# Altium schematic symbol library Components - 04.08.24 - 00.02.SchLib: 1 symbol
Pins are listed as number, name and electrical type; pins without a type are passive.

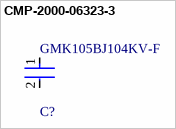
[diagram p0: symbol CMP-2000-06323-3]

## CMP-2000-06323-3
designator C?, comment GMK105BJ104KV-F
None; Voltage: 35V; Tolerance: 10%; Dielectric: X5R; Capacitance: 100nF; Voltage Rating: 35V; Halogen Free: Halogen Free; Mount: Surface Mount; Max Operating Temperature: 85°C; Width: 0.02inch; Min Operating Temperature: -55°C; Length: 1mm; REACH SVHC: No SVHC; Voltage Rating (DC): 35V; Resistor Type: Ceramic; Radiation Hardening: No; Series: M; Termination: SMD/SMT; RoHS Compliant: Yes; Case/Package: 0402; Height: 0.5mm; Packaging: Tape and Reel; Construction: Flat; Case Code (Metric): 1005; Case Code (Imperial): 0402; Depth: 0.5mm; Number of Pins: 2; Package Quantity: 1; Thickness: 0.022inch
footprint FP-0402-L_1_0_0_05-W_0_5-IPC_A
footprint FP-0402-L_1_0_0_05-W_0_5-MFG
footprint FP-0402-L_1_0_0_05-W_0_5-IPC_B
footprint FP-0402-L_1_0_0_05-W_0_5-IPC_C
pins: 1, 2